# Altium footprint library SL_Transistors.PcbLib: 4 footprints
Each footprint in its own frame and in the unit in brackets; x right, y up, seen from the top. Pads: shape width x height; smd on the part's side, far side on the other; paste and mask are expansions set on the pad; w line width, h text height; cw(c..) or ccw(c..) is an arc to the next point about the centre after c.
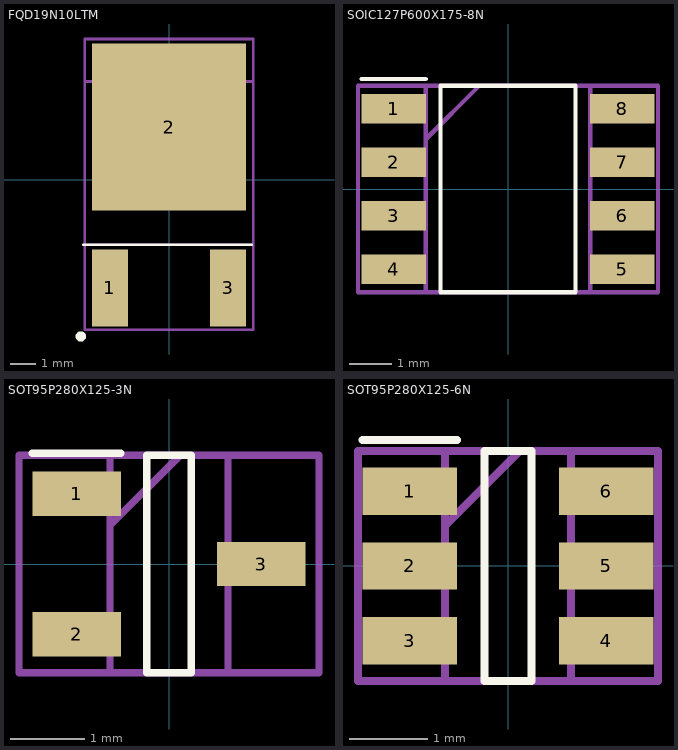
[diagram p0: the footprints below, top view; thin cyan lines are the x and y axes]

## FQD19N10LTM [mm]
pads (3):
  rect 1.4x3 smd: 1(-2.3,-4.21) 3(2.3,-4.21)
  rect 6x6.5 smd: 2(0,2.04)
Top Overlay:
  circle w0.2: c-3.429,-6.096 r0.1
  lines w0.1: -3.329,-2.54 3.211,-2.54
Mechanical 13:
  lines w0.1: -3.27,-2.54 -3.27,3.81 3.27,3.81 3.27,-2.54 -3.27,-2.54
Mechanical 15:
  lines w0.1: -3.27,-5.842 -3.27,5.461 3.27,5.461 3.27,-5.842 -3.27,-5.842
3D body "FQD19N10LTM.stp": height 2.52, standoff 0, extent -3.27,-5.316 3.27,4.635

## SOIC127P600X175-8N [mm]
pads (8):
  rect 1.525x0.7 smd: 1(-2.712,1.905) 2(-2.712,0.635) 3(-2.712,-0.635) 4(-2.712,-1.905) 5(2.712,-1.905) 6(2.712,-0.635) 7(2.712,0.635) 8(2.712,1.905)
Top Overlay:
  lines w0.1: -3.475,2.605 -1.95,2.605 ; -1.6,-2.45 -1.6,2.45 1.6,2.45 1.6,-2.45 -1.6,-2.45
Mechanical 13:
  lines w0.1: -1.95,1.18 -0.68,2.45 ; -1.95,-2.45 -1.95,2.45 1.95,2.45 1.95,-2.45 -1.95,-2.45
Mechanical 15:
  lines w0.1: -3.556,-2.45 -3.556,2.45 3.556,2.45 3.556,-2.45 -3.556,-2.45
3D body "IRF7410PBF.stp": height 1.75, standoff 0, extent -3,-2.45 3,2.45

## SOT95P280X125-3N [mm]
pads (3):
  rect 1.2x0.6 smd: 1(-1.25,0.95) 2(-1.25,-0.95) 3(1.25,0)
Top Overlay:
  lines w0.1: -1.85,1.5 -0.65,1.5 ; -0.3,-1.475 -0.3,1.475 0.3,1.475 0.3,-1.475 -0.3,-1.475
Mechanical 13:
  lines w0.1: -0.8,0.525 0.15,1.475 ; -0.8,-1.475 -0.8,1.475 0.8,1.475 0.8,-1.475 -0.8,-1.475
Mechanical 15:
  lines w0.1: -2.032,-1.475 -2.032,1.475 2.032,1.475 2.032,-1.475 -2.032,-1.475
3D body "AO3400A.stp": height 1.25, standoff 0, extent -1.4,-1.475 1.4,1.475

## SOT95P280X125-6N [mm]
pads (6):
  rect 1.2x0.6 smd mask+0.051: 1(-1.25,0.95) 2(-1.25,0) 3(-1.25,-0.95) 4(1.25,-0.95) 5(1.25,0) 6(1.25,0.95)
Top Overlay:
  lines w0.1: -1.85,1.6 -0.65,1.6 ; -0.3,-1.46 -0.3,1.46 0.3,1.46 0.3,-1.46 -0.3,-1.46
Mechanical 13:
  lines w0.1: -0.8,0.51 0.15,1.46 ; -0.8,-1.46 -0.8,1.46 0.8,1.46 0.8,-1.46 -0.8,-1.46
Mechanical 15:
  lines w0.1: -1.905,-1.46 -1.905,1.46 1.905,1.46 1.905,-1.46 -1.905,-1.46
3D body "FS8205A.stp": height 1.25, standoff 0, extent -1.4,-1.46 1.4,1.46